# Altium schematic symbol library test1.SchLib: 1 symbol
Pins are listed as number, name and electrical type; pins without a type are passive.

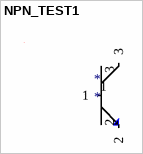
[diagram p0: symbol NPN_TEST1]

## NPN_TEST1
designator *
pins: 1, 2, 3